# Altium footprint library 05E_Convertor.PcbLib: 4 footprints
Each footprint in its own frame and in the unit in brackets; x right, y up, seen from the top. Pads: shape width x height; smd on the part's side, far side on the other; paste and mask are expansions set on the pad; w line width, h text height; cw(c..) or ccw(c..) is an arc to the next point about the centre after c.
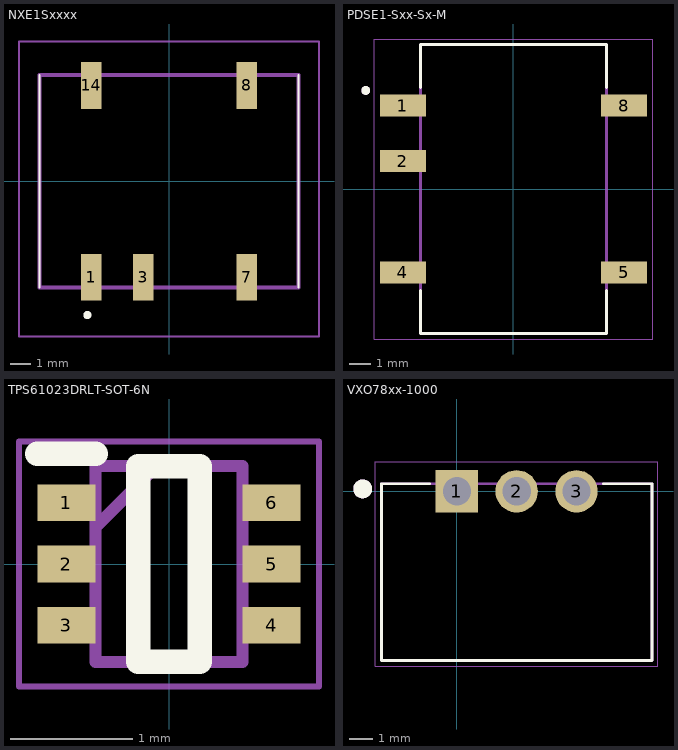
[diagram p0: the footprints below, top view; thin cyan lines are the x and y axes]

## NXE1Sxxxx [mm]
pads (5):
  rect 1x2.3 smd: 1(-3.81,-4.7) 3(-1.27,-4.7) 7(3.81,-4.7) 8(3.81,4.7) 14(-3.81,4.7)
Top Overlay:
  lines w0.1: -6.35,-5.205 -6.35,5.205 ; 6.35,-5.205 6.35,5.205
  lines w0.3: -4,-6.6 ccw(c-4,-6.55) -4,-6.5 ccw(c-4,-6.55) -4,-6.6
Top Courtyard:
  lines w0.2: -6.35,-5.205 -6.35,5.205 6.35,5.205 6.35,-5.205 -6.35,-5.205
Mechanical 20:
  lines w0.1: -7.35,-7.6 -7.35,6.85 7.35,6.85 7.35,-7.6 -7.35,-7.6

## PDSE1-Sxx-Sx-M [mm]
height 7.25
pads (5):
  rect 2.1x1 smd: 1(-5.05,3.81) 2(-5.05,1.27) 4(-5.05,-3.81) 5(5.05,-3.81) 8(5.05,3.81)
Top Overlay:
  circle w0.2: c-6.75,4.5 r0.1
  lines w0.127: -4.25,-4.64 -4.25,-6.6 4.25,-6.6 4.25,-4.64 ; -4.25,4.64 -4.25,6.6 4.25,6.6 4.25,4.64
Top 3D Body:
  circle w0.2: c-6.75,4.5 r0.1
  lines w0.127: -4.25,-6.6 -4.25,6.6 4.25,6.6 4.25,-6.6 -4.25,-6.6
Top Courtyard:
  lines w0.05: -6.35,-6.85 -6.35,6.85 6.35,6.85 6.35,-6.85 -6.35,-6.85

## TPS61023DRLT-SOT-6N [mm]
pads (6):
  rect 0.475x0.3 smd: 1(-0.838,0.5) 2(-0.838,0) 3(-0.838,-0.5) 4(0.838,-0.5) 5(0.838,0) 6(0.838,0.5)
Top Overlay:
  lines w0.2: -1.075,0.9 -0.6,0.9 ; -0.25,-0.8 0.25,-0.8 0.25,0.8 -0.25,0.8 -0.25,-0.8
Top Courtyard:
  lines w0.1: -0.6,0.3 -0.1,0.8 ; -0.6,-0.8 0.6,-0.8 0.6,0.8 -0.6,0.8 -0.6,-0.8
Mechanical 20:
  lines w0.05: -1.225,-1 1.225,-1 1.225,1 -1.225,1 -1.225,-1

## VXO78xx-1000 [mm]
pads (3):
  rect 1.8x1.8 hole 1.2: 1(0,0)
  round 1.8 hole 1.2: 2(2.54,0) 3(5.08,0)
Top Overlay:
  circle w0.4: c-4,0.1 r0.2
  lines w0.127: -1.154,0.32 -3.21,0.32 -3.21,-7.18 8.29,-7.18 8.29,0.32 6.234,0.32
Top 3D Body:
  circle w0.4: c-4,0.1 r0.2
  circle w0.4: c0.01,0.01 r0.2
  lines w0.127: -3.21,-7.18 8.29,-7.18 8.29,0.32 -3.21,0.32 -3.21,-7.18
Top Courtyard:
  lines w0.05: -3.46,-7.43 8.54,-7.43 8.54,1.254 -3.46,1.254 -3.46,-7.43